# Altium footprint library amis.PCBLIB: 1 footprints
Each footprint in its own frame and in the unit in brackets; x right, y up, seen from the top. Pads: shape width x height; smd on the part's side, far side on the other; paste and mask are expansions set on the pad; w line width, h text height; cw(c..) or ccw(c..) is an arc to the next point about the centre after c.
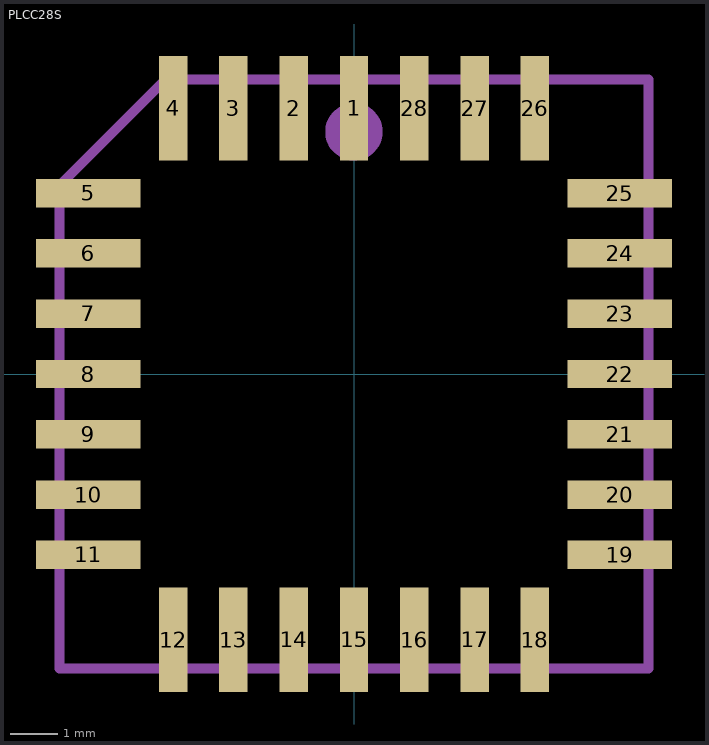
[diagram p0: the footprint, top view; thin cyan lines are the x and y axes]

## PLCC28S [mil]
pads (28):
  rect 23.62x86.61 smd: 1(0,220.47) 2(-50,220.47) 3(-100,220.47) 4(-150,220.47) 12(-150,-220.47) 13(-100,-220.47) 14(-50,-220.47) 15(0,-220.47) 16(50,-220.47) 17(100,-220.47) 18(150,-220.47) 26(150,220.47) 27(100,220.47) 28(50,220.47)
  rect 86.61x23.62 smd: 5(-220.47,150) 6(-220.47,100) 7(-220.47,50) 8(-220.47,0) 9(-220.47,-50) 10(-220.47,-100) 11(-220.47,-150) 19(220.47,-150) 20(220.47,-100) 21(220.47,-50) 22(220.47,0) 23(220.47,50) 24(220.47,100) 25(220.47,150)
Mechanical 16:
  circle w24: c0,200.79 r11.81
  rectangle: -10.24,246.06 10.24,263.78
  rectangle: -60.24,246.06 -39.76,263.78
  rectangle: -110.24,246.06 -89.76,263.78
  rectangle: -160.24,246.06 -139.76,263.78
  rectangle: -263.78,139.76 -246.06,160.24
  rectangle: -263.78,89.76 -246.06,110.24
  rectangle: -263.78,39.76 -246.06,60.24
  rectangle: -263.78,-10.24 -246.06,10.24
  rectangle: -263.78,-60.24 -246.06,-39.76
  rectangle: -263.78,-110.24 -246.06,-89.76
  rectangle: -263.78,-160.24 -246.06,-139.76
  rectangle: -160.24,-263.78 -139.76,-246.06
  rectangle: -110.24,-263.78 -89.76,-246.06
  rectangle: -60.24,-263.78 -39.76,-246.06
  rectangle: -10.24,-263.78 10.24,-246.06
  rectangle: 39.76,-263.78 60.24,-246.06
  rectangle: 89.76,-263.78 110.24,-246.06
  rectangle: 139.76,-263.78 160.24,-246.06
  rectangle: 246.06,-160.24 263.78,-139.76
  rectangle: 246.06,-110.24 263.78,-89.76
  rectangle: 246.06,-60.24 263.78,-39.76
  rectangle: 246.06,-10.24 263.78,10.24
  rectangle: 246.06,39.76 263.78,60.24
  rectangle: 246.06,89.76 263.78,110.24
  rectangle: 246.06,139.76 263.78,160.24
  rectangle: 139.76,246.06 160.24,263.78
  rectangle: 89.76,246.06 110.24,263.78
  rectangle: 39.76,246.06 60.24,263.78
  lines w8: -244.09,-244.09 -244.09,156.1 -156.1,244.09 244.09,244.09 244.09,-244.09 -244.09,-244.09